# EAGLE library part ATMEGA3250 (library audioint)
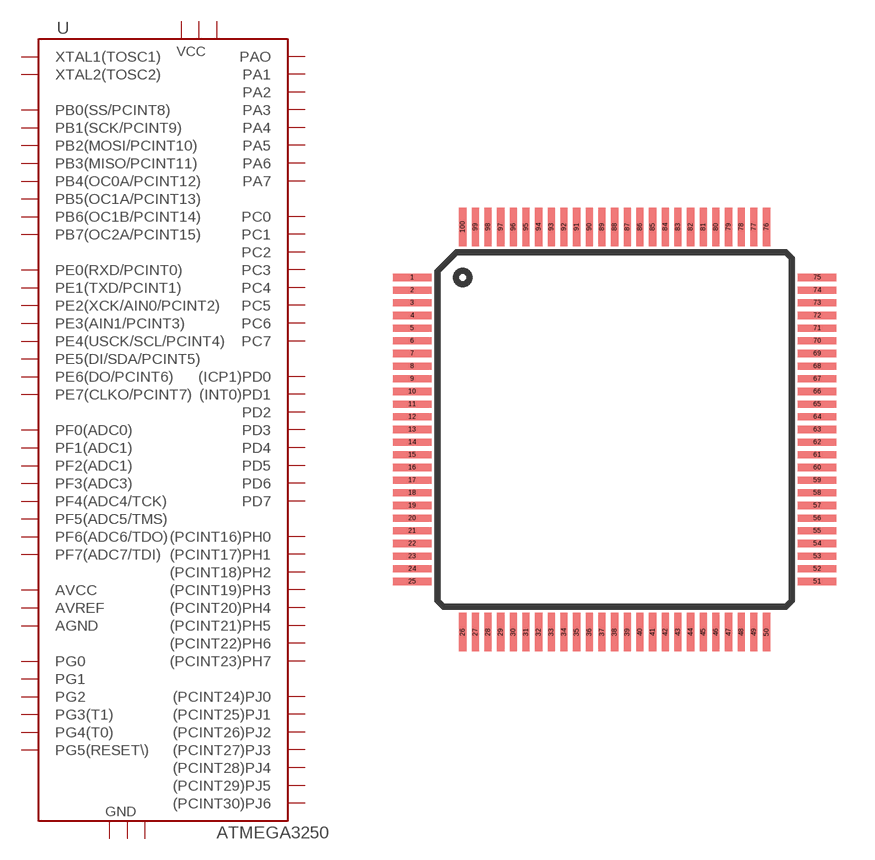
[diagram p5: symbol with the pads of 100-TQFP; footprint 100-TQFP]

Designator prefix -

## ATMEGA3250100-TQFP  [100-TQFP]
2  PE0(RXD/PCINT0)
3  PE1(TXD/PCINT1)
4  PE2(XCK/AIN0/PCINT2)
5  PE3(AIN1/PCINT3)
6  PE4(USCK/SCL/PCINT4)
7  PE5(DI/SDA/PCINT5)
8  PE6(DO/PCINT6)
9  PE7(CLKO/PCINT7)
10  03  pwr
11  04  pwr
13  (PCINT24)PJ0
14  (PCINT25)PJ1
19  PB0(SS/PCINT8)
20  PB1(SCK/PCINT9)
21  PB2(MOSI/PCINT10)
22  PB3(MISO/PCINT11)
23  PB4(OC0A/PCINT12)
24  PB5(OC1A/PCINT13)
25  PB6(OC1B/PCINT14)
26  PB7(OC2A/PCINT15)
28  PG3(T1)
29  PG4(T0)
30  PG5(RESET\)
31  VCC  pwr
32  GND  pwr
33  XTAL2(TOSC2)
34  XTAL1(TOSC1)
37  (PCINT26)PJ2
38  (PCINT27)PJ3
39  (PCINT28)PJ4
40  (PCINT29)PJ5
41  (PCINT30)PJ6
43  (ICP1)PD0
44  (INT0)PD1
45  PD2
46  PD3
47  PD4
48  PD5
49  PD6
50  PD7
51  PG0
52  PG1
53  PC0
54  PC1
55  PC2
56  PC3
57  PC4
58  PC5
63  (PCINT16)PH0
64  (PCINT17)PH1
65  (PCINT18)PH2
66  (PCINT19)PH3
68  PC6
69  PC7
70  PG2
71  PA7
72  PA6
73  PA5
74  PA4
75  PA3
76  PA2
77  PA1
78  PAO
80  01  pwr
81  02  pwr
84  (PCINT20)PH4
85  (PCINT21)PH5
86  (PCINT22)PH6
87  (PCINT23)PH7
90  PF7(ADC7/TDI)
91  PF6(ADC6/TDO)
92  PF5(ADC5/TMS)
93  PF4(ADC4/TCK)
94  PF3(ADC3)
95  PF2(ADC1)
96  PF1(ADC1)
97  PF0(ADC0)
98  AVREF
99  AGND  pwr
100  AVCC  pwr

## Footprint 100-TQFP (pad centres in mm)
smd 1.524 x 0.279: 1 -8,6; 2 -8,5.5; 3 -8,5; 4 -8,4.5; 5 -8,4; 6 -8,3.5; 7 -8,3; 8 -8,2.5; 9 -8,2; 10 -8,1.5; 11 -8,1; 12 -8,0.5; 13 -8,0; 14 -8,-0.5; 15 -8,-1; 16 -8,-1.5; 17 -8,-2; 18 -8,-2.5; 19 -8,-3; 20 -8,-3.5; 21 -8,-4; 22 -8,-4.5; 23 -8,-5; 24 -8,-5.5; 25 -8,-6; 51 8,-6; 52 8,-5.5; 53 8,-5; 54 8,-4.5; 55 8,-4; 56 8,-3.5; 57 8,-3; 58 8,-2.5; 59 8,-2; 60 8,-1.5; 61 8,-1; 62 8,-0.5; 63 8,0; 64 8,0.5; 65 8,1; 66 8,1.5; 67 8,2; 68 8,2.5; 69 8,3; 70 8,3.5; 71 8,4; 72 8,4.5; 73 8,5; 74 8,5.5; 75 8,6
smd 0.279 x 1.524: 26 -6,-8; 27 -5.5,-8; 28 -5,-8; 29 -4.5,-8; 30 -4,-8; 31 -3.5,-8; 32 -3,-8; 33 -2.5,-8; 34 -2,-8; 35 -1.5,-8; 36 -1,-8; 37 -0.5,-8; 38 0,-8; 39 0.5,-8; 40 1,-8; 41 1.5,-8; 42 2,-8; 43 2.5,-8; 44 3,-8; 45 3.5,-8; 46 4,-8; 47 4.5,-8; 48 5,-8; 49 5.5,-8; 50 6,-8; 76 6,8; 77 5.5,8; 78 5,8; 79 4.5,8; 80 4,8; 81 3.5,8; 82 3,8; 83 2.5,8; 84 2,8; 85 1.5,8; 86 1,8; 87 0.5,8; 88 0,8; 89 -0.5,8; 90 -1,8; 91 -1.5,8; 92 -2,8; 93 -2.5,8; 94 -3,8; 95 -3.5,8; 96 -4,8; 97 -4.5,8; 98 -5,8; 99 -5.5,8; 100 -6,8